# EAGLE library part BMP388-ADAFRUIT (library 1Nico)
BMP388 dari Adafruit
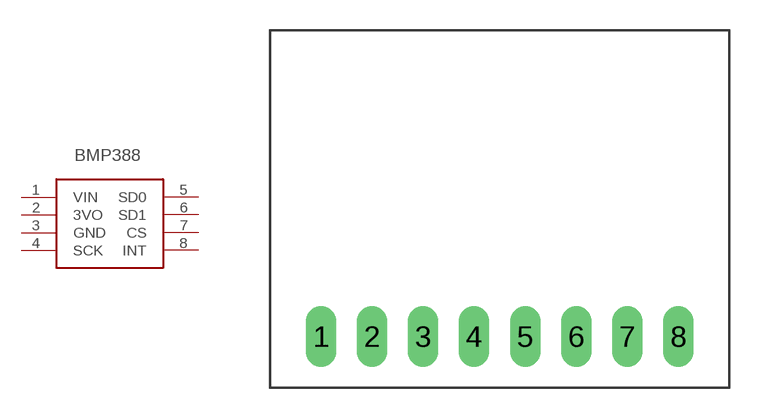
[diagram p0: symbol with the pads of BMP388; footprint BMP388]

Designator prefix -

## BMP388-ADAFRUIT  [BMP388]
1  VIN
2  3VO
3  GND
4  SCK
5  SD0
6  SD1
7  CS
8  INT

## Footprint BMP388 (pad centres in mm)
PIN HEADER
drill 1.016 long: 1 -8.89,0; 2 -6.35,0; 3 -3.81,0; 4 -1.27,0; 5 1.27,0; 6 3.81,0; 7 6.35,0; 8 8.89,0